# Altium footprint library Diodes - Rectifiers - Single.PcbLib: 2 footprints
Each footprint in its own frame and in the unit in brackets; x right, y up, seen from the top. Pads: shape width x height; smd on the part's side, far side on the other; paste and mask are expansions set on the pad; w line width, h text height; cw(c..) or ccw(c..) is an arc to the next point about the centre after c.
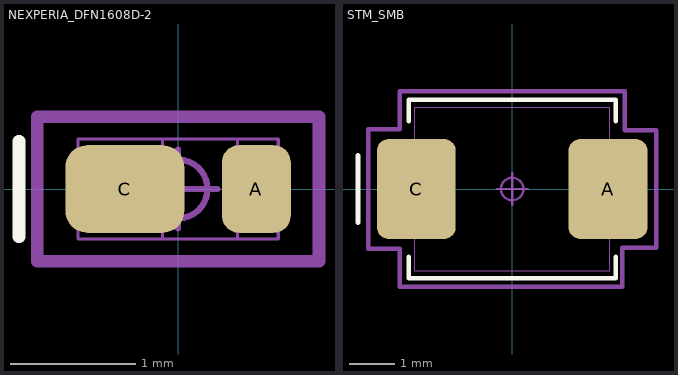
[diagram p0: the footprints below, top view; thin cyan lines are the x and y axes]

## NEXPERIA_DFN1608D-2 [mm]
height 0.4
pads (2):
  rrect50% 0.55x0.7 smd mask+0.04: A(0.625,0)
  rrect50% 0.95x0.7 smd mask+0.04: C(-0.425,0)
Top Overlay:
  lines w0.1: -1.27,-0.381 -1.27,0.381
Mechanical 13:
  lines w0.025: -0.125,-0.4 -0.125,0.4 ; 0.475,-0.4 0.475,0.4 ; -0.8,-0.4 0.8,-0.4 0.8,0.4 -0.8,0.4 -0.8,-0.4
Mechanical 15:
  circle w0.05: c0,0 r0.234
  lines w0.05: -0.312,0 0.312,0 ; 0,-0.312 0,0.312
  lines w0.1: -1.125,-0.575 1.125,-0.575 1.125,0.575 -1.125,0.575 -1.125,-0.575
3D body "DIODFN160X80X40-2.STEP": height 0.4, standoff 0, extent -0.8,-0.4 0.8,0.4

## STM_SMB [mm]
height 2.65
pads (2):
  rrect29% 1.75x2.22 smd mask+0.04: A(2.13,0) C(-2.13,0)
Top Overlay:
  lines w0.1: -3.425,-0.75 -3.425,0.75 ; -2.3,-1.5 -2.3,-1.98 2.3,-1.98 2.3,-1.5 ; -2.3,1.5 -2.3,1.98 2.3,1.98 2.3,1.5
Mechanical 13:
  lines w0.025: -2.675,-1.038 -1.55,-1.038 -1.55,1.038 -2.675,1.038 -2.675,-1.038 ; -2.163,-1.813 2.163,-1.813 2.163,1.813 -2.163,1.813 -2.163,-1.813 ; 1.55,-1.038 2.675,-1.038 2.675,1.038 1.55,1.038 1.55,-1.038
Mechanical 15:
  circle w0.05: c0,0 r0.25
  lines w0.05: -0.35,0 0.35,0 ; 0,-0.35 0,0.35
  lines w0.1: -3.2,-1.325 -3.2,1.325 -2.5,1.325 -2.5,2.175 2.5,2.175 2.5,1.3 3.2,1.3 3.2,-1.3 2.45,-1.3 2.45,-2.175 -2.5,-2.175 -2.5,-1.325 -3.2,-1.325
3D body "SODFL5336X265.STEP": height 2.65, standoff 0, extent -2.675,-1.812 2.675,1.813